# EAGLE library part TMP102 (library jonsowman)
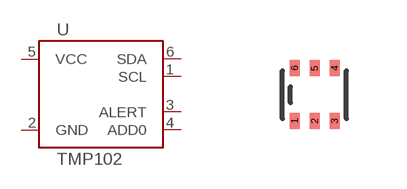
[diagram p8: symbol with the pads of SOT563; footprint SOT563]

Designator prefix U

## TMP102  [SOT563]
1  SCL
2  GND
3  ALERT
4  ADD0
5  VCC
6  SDA

## Footprint SOT563 (pad centres in mm)
smd 0.25 x 0.4: 1 -0.5,-0.66; 2 0,-0.66; 3 0.5,-0.66; 4 0.5,0.66; 5 0,0.66; 6 -0.5,0.67